# EAGLE library part RCTRL_CONNECTOR_CHANNELS (library igorsales)
Header to connect pins. 2.54MM pitch, with 5mm exposed lead upwards.
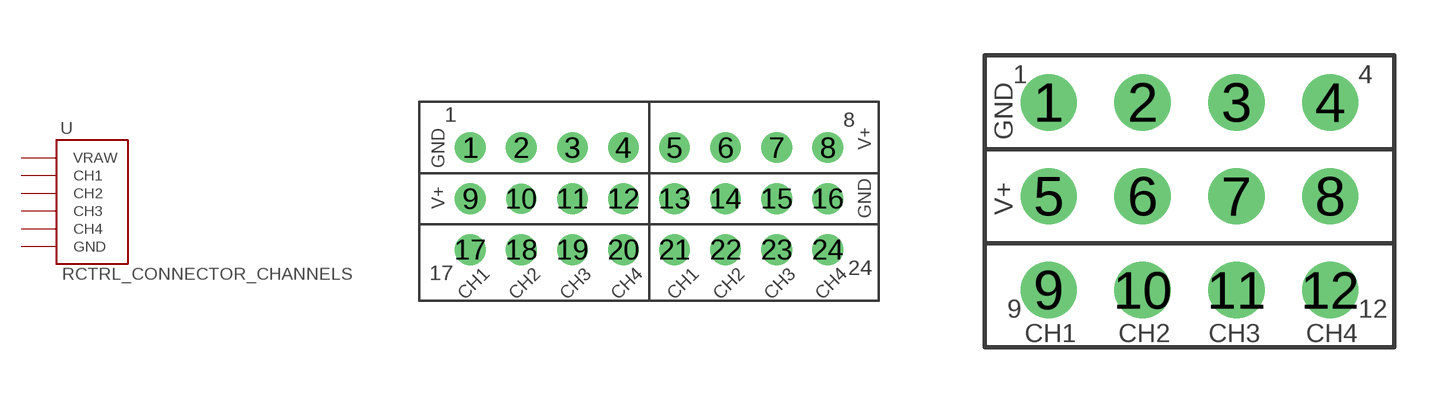
[diagram p0: symbol with the pads of HEADER3X8-2.54MM; footprints HEADER3X8-2.54MM, HEADER3X4-2.54MM]

Designator prefix -

## RCTRL_CONNECTOR_CHANNELS  [HEADER3X8-2.54MM]
1  GND  pwr
2  GND  pwr
3  GND  pwr
4  GND  pwr
5  VRAW  pwr
6  VRAW  pwr
7  VRAW  pwr
8  VRAW  pwr
9  VRAW  pwr
10  VRAW  pwr
11  VRAW  pwr
12  VRAW  pwr
13  GND  pwr
14  GND  pwr
15  GND  pwr
16  GND  pwr
17  CH1  in
18  CH2  in
19  CH3  in
20  CH4  in
21  CH1  in
22  CH2  in
23  CH3  in
24  CH4  in

## RCTRL_CONNECTOR_CHANNELSRCTRL_CHANNELS_MINI  [HEADER3X4-2.54MM]
1  GND  pwr
2  GND  pwr
3  GND  pwr
4  GND  pwr
5  VRAW  pwr
6  VRAW  pwr
7  VRAW  pwr
8  VRAW  pwr
9  CH1  in
10  CH2  in
11  CH3  in
12  CH4  in

## Footprint HEADER3X8-2.54MM (pad centres in mm)
Standard header male pins, with 5mm of expose lead up http://www.digikey.ca/product-detail/en/804-10-024-10-002000/ED8040-24-ND/2552578
drill 1.016: 1 -8.89,2.54; 2 -6.35,2.54; 3 -3.81,2.54; 4 -1.27,2.54; 5 1.27,2.54; 6 3.81,2.54; 7 6.35,2.54; 8 8.89,2.54; 9 -8.89,0; 11 -3.81,0; 12 -1.27,0; 13 1.27,0; 14 3.81,0; 15 6.35,0; 16 8.89,0; 17 -8.89,-2.54; 18 -6.35,-2.54; 19 -3.81,-2.54; 20 -1.27,-2.54; 21 1.27,-2.54; 22 3.81,-2.54; 23 6.35,-2.54; 24 8.89,-2.54
drill 1: 10 -6.35,0

## Footprint HEADER3X4-2.54MM (pad centres in mm)
HEADER 3X4 2.54MM pitch, 5mm contact lead length
drill 1.016: 1 -3.81,2.54; 2 -1.27,2.54; 3 1.27,2.54; 4 3.81,2.54; 5 -3.81,0; 6 -1.27,0; 7 1.27,0; 8 3.81,0; 9 -3.81,-2.54; 10 -1.27,-2.54; 11 1.27,-2.54; 12 3.81,-2.54